# Altium footprint library GenerALI.PcbLib: 29 footprints (part 1 of 2)
Each footprint in its own frame and in the unit in brackets; x right, y up, seen from the top. Pads: shape width x height; smd on the part's side, far side on the other; paste and mask are expansions set on the pad; w line width, h text height; cw(c..) or ccw(c..) is an arc to the next point about the centre after c.
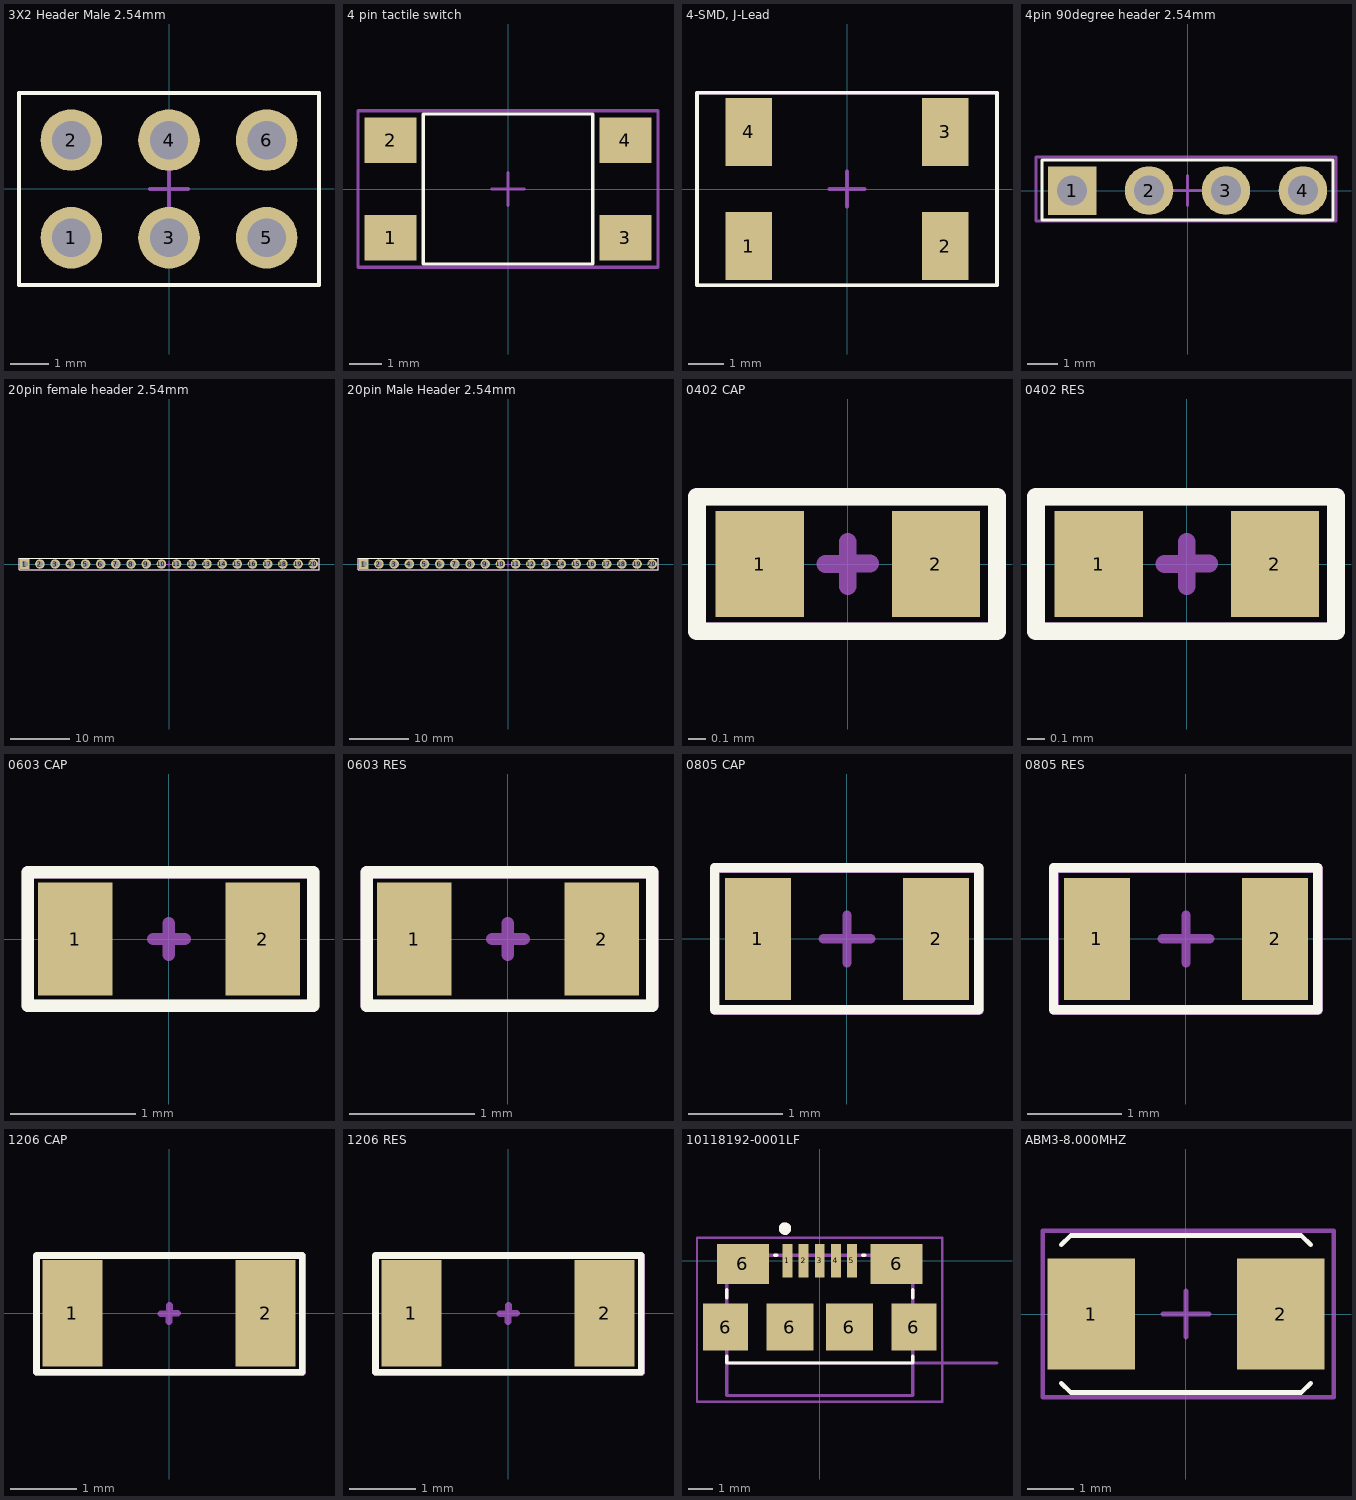
[diagram p0: the footprints below, top view; thin cyan lines are the x and y axes]

## 3X2 Header Male 2.54mm [mm] "3X2 Header Male 2.54mm"
pads (6):
  round 1.6 hole 1 paste-2539.97 mask+0.05: 1(-2.54,-1.27) 2(-2.54,1.27) 3(0,-1.27) 4(0,1.27) 5(2.54,-1.27) 6(2.54,1.27)
Top Overlay:
  lines w0.1: -3.9,-2.5 -3.9,2.495 3.9,2.495 3.9,-2.5 -3.9,-2.5
Top Component Center:
  lines w0.1: 0,-0.5 0,0.5 0,0 -0.5,0 0.5,0 ; -3.9,-2.5 -3.9,2.495 3.9,2.495 3.9,-2.5 -3.9,-2.5
Top Designator:
  text ".Designator" at -1.75,-0.483 h0.8
3D body "Header 3x2 vert 0.1 inch pitch thru.step": height 8.11, standoff -3.14, extent -3.81,-2.41 3.81,2.41

## 4 pin tactile switch [mm] "yatay düzlemdekiler iletimde 1ve2/3ve4"
pads (4):
  rect 1.6x1.4 smd paste-2539.97 mask+0.05: 1(-3.6,-1.5) 2(-3.6,1.5) 3(3.6,-1.5) 4(3.6,1.5)
Top Overlay:
  lines w0.1: -2.6,-2.3 2.6,-2.3 2.6,2.3 -2.6,2.3 -2.6,-2.3
Top Component Center:
  lines w0.1: -0.5,0 0.5,0 0,0 0,-0.5 0,0.5 ; -4.6,-2.4 -4.6,2.4 4.6,2.4 4.6,-2.4 -4.6,-2.4
Top Designator:
  text ".Designator" at -0.95,-0.483 h0.8
3D body "TL3305BF260QG--3DModel-STEP-613395.STEP": height 5, standoff 0, extent -3.75,-2.25 3.75,2.25

## 4-SMD, J-Lead [mm] "4-SMD, J-Lead"
pads (4):
  rect 1.3x1.9 smd paste-2539.97 mask+0.05: 1(-2.75,-1.6) 2(2.75,-1.6) 3(2.75,1.6) 4(-2.75,1.6)
Top Overlay:
  lines w0.1: -4.2,-2.7 -4.2,2.7 4.2,2.7 4.2,-2.7 -4.2,-2.7
Top Component Center:
  lines w0.1: -0.5,0 0.5,0 ; 0,-0.5 0,0.5 ; -4.2,-2.7 4.2,-2.7 4.2,2.7 -4.2,2.7 -4.2,-2.7
Top Designator:
  text ".Designator" at -1.15,-0.283 h0.8
3D body: height 2.4, standoff 0, extent -4,-1.85 4,1.85

## 4pin 90degree header 2.54mm [mm] "4pin 90degree header 2.54mm"
pads (4):
  rect 1.6x1.6 hole 1 paste-2539.97 mask+0.05: 1(-3.81,0)
  round 1.6 hole 1 paste-2539.97 mask+0.05: 2(-1.27,0) 3(1.27,0) 4(3.81,0)
Top Overlay:
  lines w0.1: -4.8,-0.9 -4.8,1 4.8,1 4.8,-0.969 -4.8,-0.969 -4.8,-0.7
Top Component Center:
  lines w0.1: -0.5,0 0.5,0 ; 0,-0.5 0,0.5 0,0 ; -5,-1 -5,1.1 4.9,1.1 4.9,-1 -5,-1
3D body "2.54 mm crooked Male Header Dupont Pins, 90°, 1X4 v1.step": height 5.01, standoff -3, extent -5.08,-1.27 5.08,6.12

## 20pin female header 2.54mm [mm] "20pin female header 2.54mm"
pads (20):
  rect 1.6x1.6 hole 1 paste-2539.97 mask+0.05: 1(-24.13,0)
  round 1.6 hole 1 paste-2539.97 mask+0.05: 2(-21.59,0) 3(-19.05,0) 4(-16.51,0) 5(-13.97,0) 6(-11.43,0) 7(-8.89,0) 8(-6.35,0) 9(-3.81,0) 10(-1.27,0) 11(1.27,0) 12(3.81,0) 13(6.35,0) 14(8.89,0) 15(11.43,0) 16(13.97,0) 17(16.51,0) 18(19.05,0) 19(21.59,0) 20(24.13,0)
Top Overlay:
  lines w0.1: -25.1,-1 -25.1,1 25.1,1 25.1,-1 -25.1,-1
Top Component Center:
  lines w0.1: -0.5,0 0.5,0 0,0 ; 0,0 0,0.5 0,-0.5 0,0 ; -25.1,-1 25.1,-1 25.1,1 -25.1,1 -25.1,-1

## 20pin Male Header 2.54mm [mm] "20pin Male Header 2.54mm"
pads (20):
  rect 1.6x1.6 hole 1 paste-2539.97 mask+0.05: 1(-24.13,0)
  round 1.6 hole 1 paste-2539.97 mask+0.05: 2(-21.59,0) 3(-19.05,0) 4(-16.51,0) 5(-13.97,0) 6(-11.43,0) 7(-8.89,0) 8(-6.35,0) 9(-3.81,0) 10(-1.27,0) 11(1.27,0) 12(3.81,0) 13(6.35,0) 14(8.89,0) 15(11.43,0) 16(13.97,0) 17(16.51,0) 18(19.05,0) 19(21.59,0) 20(24.13,0)
Top Overlay:
  lines w0.1: -25.1,-1 -25.1,1 25.1,1 25.1,-1 -25.1,-1
Top Component Center:
  lines w0.1: -0.5,0 0.5,0 0,0 ; 0,0 0,0.5 0,-0.5 0,0 ; -25.1,-1 25.1,-1 25.1,1 -25.1,1 -25.1,-1
3D body "TSW-120-07-SS-S.stp": height 2.54, standoff -8.38, extent -25.4,-1.27 25.527,1.27

## 0402 CAP [mm]
pads (2):
  rect 0.5x0.6 smd paste-2539.97 mask+0.05: 1(-0.5,0) 2(0.5,0)
Top Overlay:
  lines w0.1: -0.856,-0.381 0.846,-0.381 0.846,0.381 -0.856,0.381 -0.856,-0.381
Top Component Center:
  lines w0.1: -0.127,0 0,0 ; -0.001,0.003 0.126,0.003 ; 0,-0.127 0,0 ; 0,0.127 0,0 ; -0.856,-0.381 0.846,-0.381 0.846,0.381 -0.856,0.381 -0.856,-0.381
Top Designator:
  text ".Designator" at -0.147,-0.193 h0.8
3D body "0402cap.STEP": height 0.61, standoff 0, extent -0.51,-0.255 0.51,0.255

## 0402 RES [mm]
pads (2):
  rect 0.5x0.6 smd paste-2539.97 mask+0.05: 1(-0.5,0) 2(0.5,0)
Top Overlay:
  lines w0.1: -0.856,-0.381 0.846,-0.381 0.846,0.381 -0.856,0.381 -0.856,-0.381
Top Component Center:
  lines w0.1: -0.127,0 0,0 ; -0.001,0.003 0.126,0.003 ; 0,-0.127 0,0 ; 0,0.127 0,0 ; -0.856,-0.381 0.846,-0.381 0.846,0.381 -0.856,0.381 -0.856,-0.381
Top Designator:
  text ".Designator" at -0.147,-0.193 h0.8
3D body "0402res.STEP": height 0.35, standoff 0, extent -0.5,-0.25 0.5,0.25

## 0603 CAP [mm]
pads (2):
  rect 0.6x0.9 smd paste-2539.97 mask+0.05: 1(-0.75,0) 2(0.75,0)
Top Overlay:
  lines w0.1: -1.131,-0.533 1.155,-0.533 1.155,0.533 -1.131,0.533 -1.131,-0.533
Top Component Center:
  lines w0.1: -0.127,0 0,0 ; 0,-0.127 0,0 ; 0,0.127 0,0 ; 0.127,0 0,0 ; -1.131,-0.533 -1.131,0.533 1.155,0.533 1.155,-0.533 -1.131,-0.533
Top Designator:
  text ".Designator" at -0.676,-0.345 h0.8
3D body "CAPC0603.STEP": height 0.8, standoff 0, extent -1.05,-0.521 1.05,0.508

## 0603 RES [mm]
pads (2):
  rect 0.6x0.9 smd paste-2539.97 mask+0.05: 1(-0.75,0) 2(0.75,0)
Top Overlay:
  lines w0.1: -1.131,-0.533 -1.131,0.533 1.155,0.533 1.155,-0.533 -1.131,-0.533
Top Component Center:
  lines w0.1: -0.127,0 0,0 ; 0,-0.127 0,0 ; 0,0.127 0,0 ; 0.127,0 0,0 ; -1.131,-0.533 1.155,-0.533 1.155,0.533 -1.131,0.533 -1.131,-0.533
Top Designator:
  text ".Designator" at -0.676,-0.345 h0.8
3D body "0603S1.STEP": height 0.43, standoff -0.02, extent -0.988,-0.471 0.988,0.508

## 0805 CAP [mm]
pads (2):
  rect 0.7x1.3 smd mask+0.05: 1(-0.95,0) 2(0.95,0)
Top Overlay:
  lines w0.1: -1.414,0.744 -1.414,-0.754 1.405,-0.754 1.405,0.744 ; -1.414,0.76 1.278,0.76 1.405,0.76
Top Component Center:
  lines w0.1: -1.407,0.737 -1.407,-0.762 1.412,-0.762 1.412,0.737 ; -1.407,0.752 1.285,0.752 1.412,0.752 ; -0.254,0 0,0 ; 0,-0.254 0,0.254 0,0 ; 0,0 0.254,0 0,0
Top Designator:
  text ".Designator" at -0.316,-0.267 h0.8
3D body "CAPC0805.STEP": height 0.9, standoff 0, extent -1.301,-0.678 1.301,0.678

## 0805 RES [mm]
pads (2):
  rect 0.7x1.3 smd mask+0.05: 1(-0.95,0) 2(0.95,0)
Top Overlay:
  lines w0.1: -1.414,0.744 -1.414,-0.754 1.405,-0.754 1.405,0.744 ; -1.414,0.76 1.278,0.76 1.405,0.76
Top Component Center:
  lines w0.1: -1.407,0.737 -1.407,-0.762 1.412,-0.762 1.412,0.737 ; -1.407,0.752 1.285,0.752 1.412,0.752 ; -0.254,0 0,0 ; 0,-0.254 0,0.254 0,0 ; 0,0 0.254,0 0,0
Top Designator:
  text ".Designator" at -0.316,-0.267 h0.8
3D body "res0805.STEP": height 0.5, standoff 0, extent -1.249,-0.75 1.249,0.75

## 1206 CAP [mm]
pads (2):
  rect 0.9x1.6 smd paste-2539.97 mask+0.05: 1(-1.45,0) 2(1.45,0)
Top Overlay:
  lines w0.1: -1.987,-0.886 -1.987,0.867 2.001,0.867 2.001,-0.886 -1.987,-0.886
Top Component Center:
  lines w0.1: -0.12,-0.006 0.007,-0.006 ; 0,-0.127 0,0 0.127,0 ; 0.008,-0.008 0.008,0.119 ; -1.983,-0.889 2.004,-0.889 2.004,0.864 -1.983,0.864 -1.983,-0.889
Top Designator:
  text ".Designator" at -0.739,-0.472 h0.8
3D body "CAPC1206.STEP": height 1.3, standoff -0.01, extent -1.975,-0.976 1.975,0.976

## 1206 RES [mm]
pads (2):
  rect 0.9x1.6 smd paste-2539.97 mask+0.05: 1(-1.45,0) 2(1.45,0)
Top Overlay:
  lines w0.1: -1.987,-0.886 -1.987,0.867 2.001,0.867 2.001,-0.886 -1.987,-0.886
Top Component Center:
  lines w0.1: -0.12,-0.006 0.007,-0.006 ; 0,-0.127 0,0 0.127,0 ; 0.008,-0.008 0.008,0.119 ; -1.983,-0.889 2.004,-0.889 2.004,0.864 -1.983,0.864 -1.983,-0.889
Top Designator:
  text ".Designator" at -0.739,-0.472 h0.8
3D body "res1206r.STEP": height 0.55, standoff 0, extent -1.984,-0.938 1.984,0.938

## 10118192-0001LF [mm] "10118192-0001LF Micro b usb connector smd"
pads (11):
  rect 0.4x1.35 smd: 1(-1.3,0) 2(-0.65,0) 3(0,0) 4(0.65,0) 5(1.3,0)
  rect 1.8x1.9 smd: 6(-3.8,-2.675) 6(3.8,-2.675)
  rect 2.1x1.6 smd: 6(-3.1,-0.125) 6(3.1,-0.125)
  rect 1.9x1.9 smd: 6(-1.2,-2.675) 6(1.2,-2.675)
Top Overlay:
  circle w0.3: c-1.4,1.3 r0.1
  lines w0.127: -3.75,-3.85 -3.75,-4.125 3.75,-4.125 3.75,-3.85 ; -3.75,-1.5 -3.75,-1.15 ; -1.83,0.225 -1.72,0.225 ; 1.72,0.225 1.83,0.225 ; 3.75,-1.5 3.75,-1.15
Mechanical 13:
  circle w0.3: c-1.4,1.3 r0.1
  lines w0.127: 7.15,-4.125 3.75,-4.125 ; -3.75,-4.125 3.75,-4.125 ; -3.75,-4.125 -3.75,0.225 3.75,0.225 3.75,-4.125 ; -3.75,-4.125 -3.75,-5.436 3.75,-5.436 3.75,-4.125
  text "PCB Edge" at 5.205,-3.904 h0.81
Mechanical 15:
  lines w0.1: -4.95,-5.686 -4.95,0.925 4.95,0.925 4.95,-5.686 -4.95,-5.686
3D body "step_temp.STEP": height 2.5, standoff -0.29, extent -3.955,-5.396 3.955,0.27

## ABM3-8.000MHZ [mm] "2-SMD, No Lead for crystals"
pads (2):
  rect 1.9x2.4 smd paste-2539.97 mask+0.05: 1(-2.05,0) 2(2.05,0)
Top Overlay:
  lines w0.1: -2.7,-1.5 -2.5,-1.7 2.5,-1.7 2.7,-1.5 ; -2.7,1.5 -2.5,1.7 2.5,1.7 2.7,1.5
Top Component Center:
  lines w0.1: -0.5,0 0,0 ; 0,-0.5 0,0 ; 0,0.5 0,0 ; 0.5,0 0,0 ; -3.1,-1.8 -3.1,1.8 3.2,1.8 3.2,-1.8 -3.1,-1.8
Top Designator:
  text ".Designator" at -0.65,-0.483 h0.8
3D body "ABM3-8.000MHZ-B4Y-T--3DModel-STEP-400430.STEP": height 1.3, standoff 0, extent -2.5,-1.6 2.5,1.6